# Altium footprint library Capacitors.PcbLib: 34 footprints (part 1 of 3)
Each footprint in its own frame and in the unit in brackets; x right, y up, seen from the top. Pads: shape width x height; smd on the part's side, far side on the other; paste and mask are expansions set on the pad; w line width, h text height; cw(c..) or ccw(c..) is an arc to the next point about the centre after c.
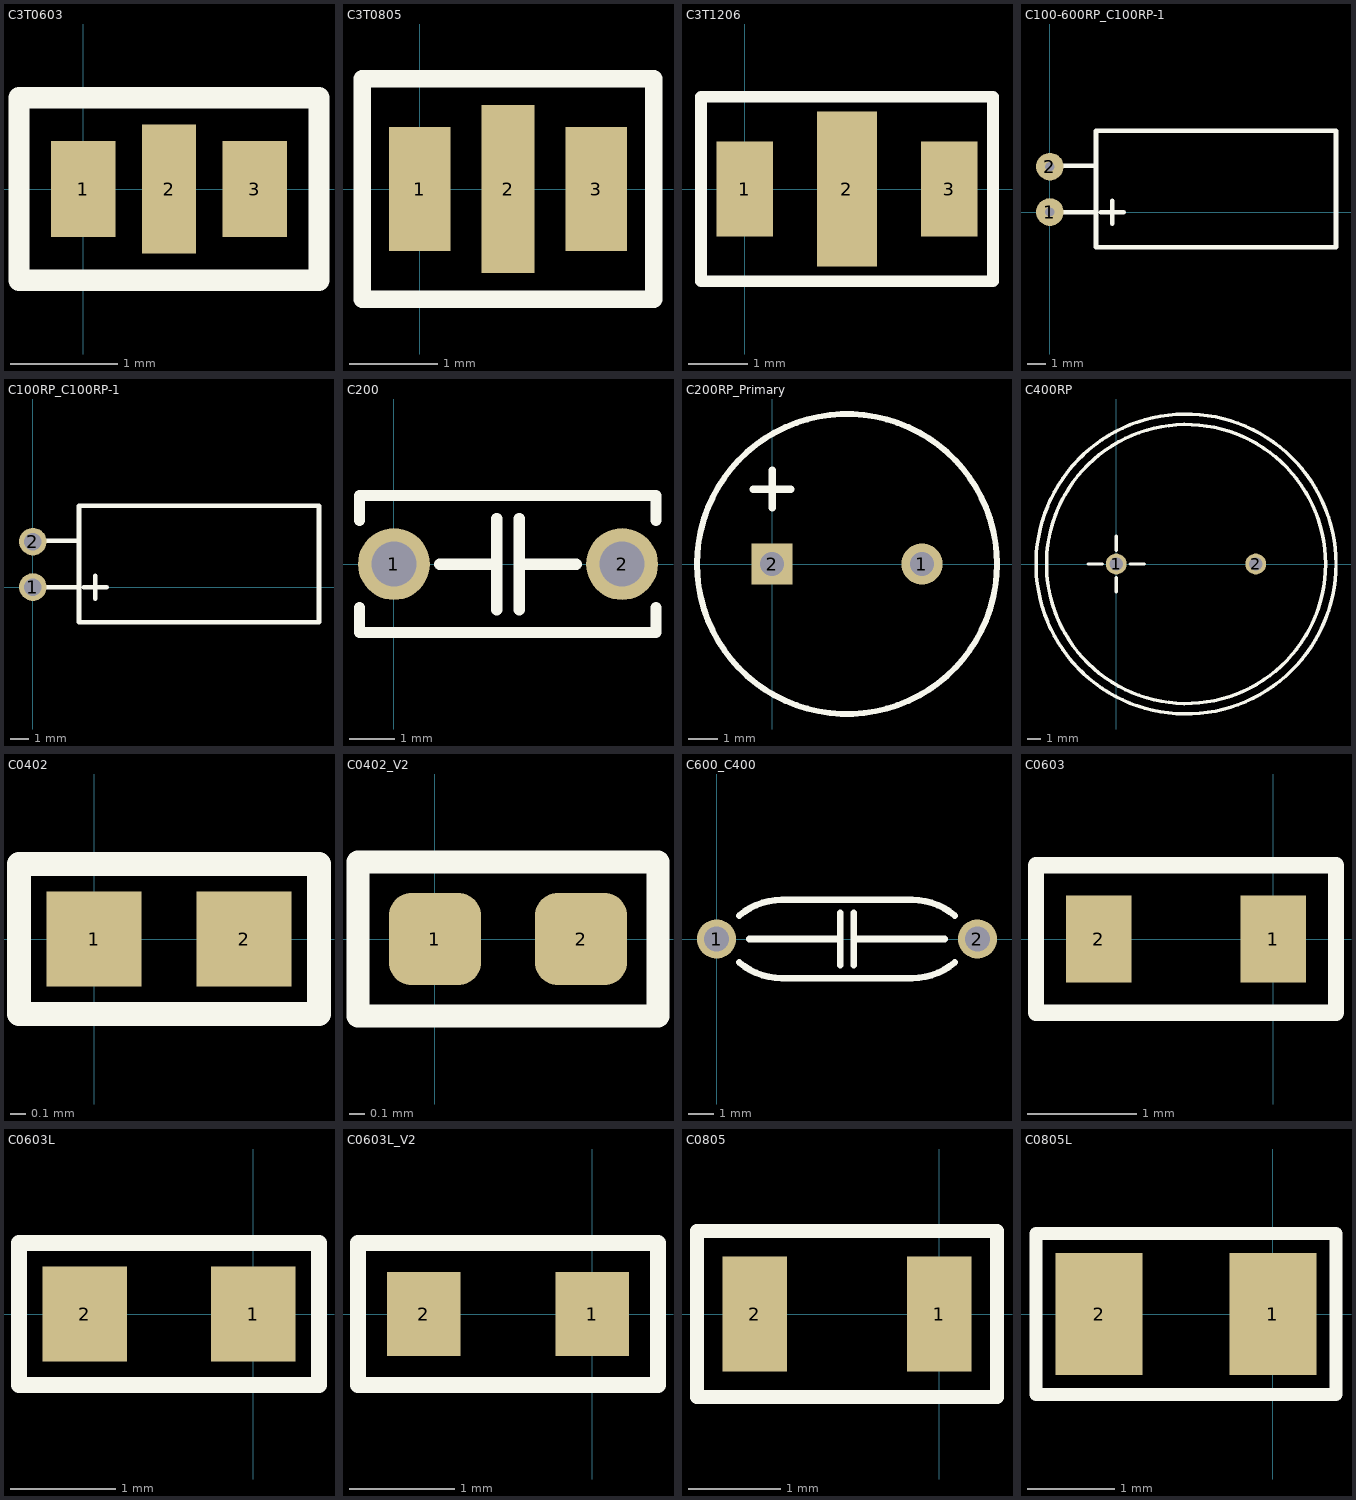
[diagram p0: the footprints below, top view; thin cyan lines are the x and y axes]

## C3T0603 [mm]
pads (3):
  rect 0.6x0.9 smd: 1(0,0) 3(1.6,0)
  rect 0.5x1.2 smd: 2(0.8,0)
Top Overlay:
  lines w0.2: -0.6,-0.85 2.2,-0.85 2.2,0.85 -0.6,0.85 -0.6,-0.85
Top Assembly:
  text ".Designator" at 5.798,-0.333 h1

## C3T0805 [mm]
pads (3):
  rect 0.7x1.4 smd: 1(0,0) 3(2,0)
  rect 0.6x1.9 smd: 2(1,0)
Top Overlay:
  lines w0.2: -0.65,-1.25 2.65,-1.25 2.65,1.25 -0.65,1.25 -0.65,-1.25
Top Assembly:
  text ".Designator" at 5.998,-0.333 h1

## C3T1206 [mm]
pads (3):
  rect 0.95x1.6 smd: 1(0,0) 3(3.44,0)
  rect 1x2.6 smd: 2(1.72,0)
Top Overlay:
  lines w0.2: -0.73,-1.55 -0.73,1.55 4.17,1.55 4.17,-1.55 -0.73,-1.55
Top Assembly:
  text ".Designator" at 6.718,-0.333 h1

## C100-600RP_C100RP-1 [mil]
pads (2):
  round 60 hole 20: 1(0,0) 2(0,98.43)
Top Overlay:
  lines w9.84: 0,0 100,0 ; 0,100 100,100 ; 110,0 160,0 ; 135,-25 135,25 ; 100,-76 100,176 620,176 620,-76 100,-76
Top Assembly:
  text ".Designator" at 492.25,36.88 h39.37

## C100RP_C100RP-1 [mil]
pads (2):
  round 60 hole 38: 1(0,0) 2(0,98.43)
Top Overlay:
  lines w9.84: 0,0 100,0 ; 0,100 100,100 ; 110,0 160,0 ; 135,-25 135,25 ; 100,-76 100,176 620,176 620,-76 100,-76
Top Assembly:
  text ".Designator" at 492.25,36.88 h39.37

## C200 [mm]
pads (2):
  round 1.6 hole 1: 1(0,0) 2(5.08,0)
Top Overlay:
  lines w0.25: -0.765,-0.965 -0.765,-1.52 5.825,-1.52 ; -0.765,0.97 -0.765,1.525 -0.755,1.525 5.835,1.525 5.835,0.97 ; 5.835,-1.52 5.835,-0.965
  lines w0.254: 1.016,0 2.286,0 ; 2.286,-1.016 2.286,1.016 ; 2.794,-1.016 2.794,1.016 ; 2.794,0 4.064,0
Top Assembly:
  text ".Designator" at 7.538,-0.331 h1

## C200RP_Primary [mm]
pads (2):
  round 1.4 hole 0.8: 1(5.08,0)
  rect 1.4x1.4 hole 0.8: 2(0,0)
Top Overlay:
  circle w0.2: c2.54,0 r5.08
  lines w0.254: -0.635,2.54 0.635,2.54 ; 0,1.905 0,3.175
Top Assembly:
  text ".Designator" at 7.538,-0.333 h1
3D body "User Library-CE_R200_D400_H500.STEP": height 13.13, standoff -2.27, extent -2.519,-5.062 7.6,5.062

## C400RP [mil]
pads (2):
  round 60 hole 38: 1(0,0) 2(400,0)
Top Overlay:
  circle w10: c200,0 r400
  circle w10: c200,0 r430
  lines w10: -80,0 -40,0 ; 0,-80 0,-40 ; 0,40 0,80 ; 40,0 80,0
Top Assembly:
  text ".Designator" at 396.79,-13.12 h39.37

## C0402 [mm]
pads (2):
  rect 0.6x0.6 smd: 1(0,0) 2(0.95,0)
Top Overlay:
  lines w0.15: -0.475,-0.475 -0.475,0.475 1.425,0.475 1.425,-0.475 -0.475,-0.475
Top Assembly:
  text ".Designator" at 5.473,-0.333 h1
3D body "C0402.STEP": height 0.49, standoff -0.01, extent -0.025,-0.25 0.975,0.25

## C0402_V2 [mm]
pads (2):
  rrect50% 0.6x0.6 smd: 1(0,0) 2(0.95,0)
Top Overlay:
  lines w0.15: -0.5,-0.5 -0.5,0.5 1.45,0.5 1.45,-0.5 -0.5,-0.5
Top Assembly:
  text ".Designator" at -2.524,-0.2 h0.6
3D body "C0402.STEP": height 0.49, standoff -0.01, extent -0.025,-0.25 0.975,0.25

## C600_C400 [mil]
pads (2):
  round 60 hole 38: 1(0,0) 2(400,0)
Top Overlay:
  lines w10: 34.92,-35.93 ccw(c100,40) 100,-60 300,-60 ccw(c300,40) 365.08,-35.93 ; 34.92,35.93 cw(c100,-40) 100,60 300,60 cw(c300,-40) 365.08,35.93 ; 50,0 190,0 ; 190,-40 190,40 ; 210,-40 210,40 ; 210,0 350,0
Top Assembly:
  text ".Designator" at 396.79,-13.12 h39.37

## C0603 [mm]
pads (2):
  rect 0.6x0.8 smd: 1(0,0) 2(-1.6,0)
Top Overlay:
  lines w0.15: -2.175,-0.675 0.575,-0.675 0.575,0.675 -2.175,0.675 -2.175,-0.675
Top Assembly:
  text ".Designator" at -4.799,-0.267 h0.8
3D body "User Library-cap_0603_lowprofile.STEP": height 0.6, standoff 0, extent -1.6,-0.4 0,0.4

## C0603L [mm]
pads (2):
  rect 0.8x0.9 smd: 1(0,0) 2(-1.6,0)
Top Overlay:
  lines w0.15: -2.225,-0.675 0.625,-0.675 0.625,0.675 -2.225,0.675 -2.225,-0.675
Top Assembly:
  text ".Designator" at -4.799,-0.267 h0.8
3D body "User Library-cap_0603_lowprofile.STEP": height 0.6, standoff 0, extent -1.6,-0.4 0,0.4

## C0603L_V2 [mm]
pads (2):
  rect 0.7x0.8 smd: 1(0,0) 2(-1.6,0)
Top Overlay:
  lines w0.15: -2.225,-0.675 -2.225,0.675 0.625,0.675 0.625,-0.675 -2.225,-0.675
Top Assembly:
  text ".Designator" at -4.799,-0.267 h0.8
3D body "User Library-cap_0603_lowprofile.STEP": height 0.6, standoff 0, extent -1.6,-0.4 0,0.4

## C0805 [mm]
pads (2):
  rect 0.7x1.25 smd: 1(0,0) 2(-2,0)
Top Overlay:
  lines w0.15: -2.625,-0.9 -2.625,0.9 0.625,0.9 0.625,-0.9 -2.625,-0.9
Top Assembly:
  text ".Designator" at -5.499,-0.3 h0.9
3D body "User Library-cap_0805_lowprofile.STEP": height 0.95, standoff 0, extent -2,-0.6 0,0.6

## C0805L [mm]
pads (2):
  rect 1x1.4 smd: 1(0,0) 2(-2,0)
Top Overlay:
  lines w0.15: -2.725,-0.925 -2.725,0.925 0.725,0.925 0.725,-0.925 -2.725,-0.925
Top Assembly:
  text ".Designator" at -5.499,-0.3 h0.9
3D body "User Library-cap_0805_lowprofile.STEP": height 0.95, standoff 0, extent -2,-0.6 0,0.6